# Altium footprint library PCB - LEADLESS - DFN - ANALOG DFN-8 3x2MM.PcbLib: 1 footprints
Each footprint in its own frame and in the unit in brackets; x right, y up, seen from the top. Pads: shape width x height; smd on the part's side, far side on the other; paste and mask are expansions set on the pad; w line width, h text height; cw(c..) or ccw(c..) is an arc to the next point about the centre after c.
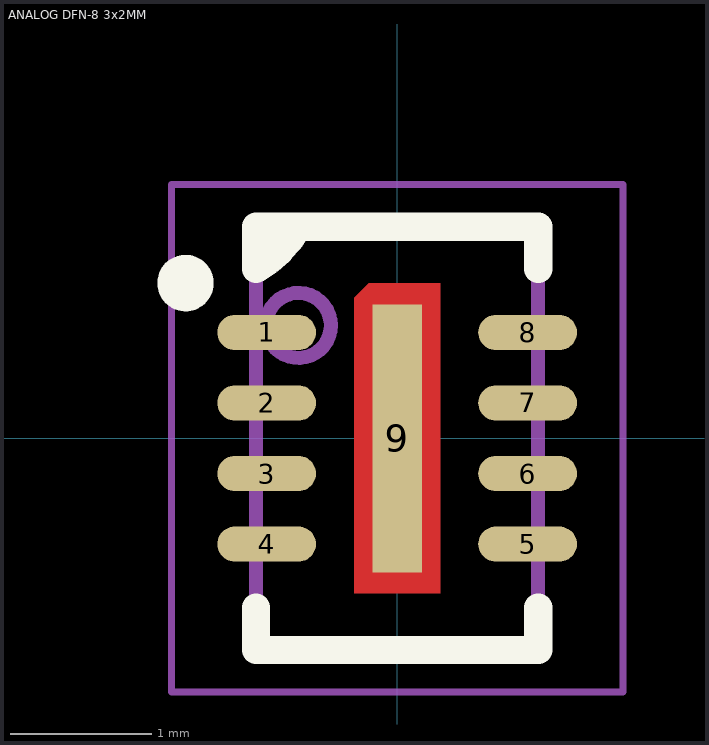
[diagram p0: the footprint, top view; thin cyan lines are the x and y axes]

## ANALOG DFN-8 3x2MM [mm] "8-WFDFN Exposed Pad Package, 0.5mm Pitch, 3.00x2.00 mm Body"
height 0.8
pads (9):
  oval 0.7x0.25 smd: 1(-0.925,0.75) 2(-0.925,0.25) 3(-0.925,-0.25) 4(-0.925,-0.75) 5(0.925,-0.75) 6(0.925,-0.25) 7(0.925,0.25) 8(0.925,0.75)
  rect 0.35x1.9 smd: 9(0,0)
Top Layer:
  region: -0.305,0.995 -0.2,1.1 0.305,1.1 0.305,-1.1 -0.305,-1.1
Top Overlay:
  circle w0.2: c-1.5,1.1 r0.1
  lines w0.2: -1,-1.2 -1,-1.5 1,-1.5 1,-1.2 ; -0.7,1.5 cw(c-1.402,1.902) -1,1.2 -1,1.5 1,1.5 1,1.2
Mechanical 13:
  circle w0.1: c-0.7,0.8 r0.23
  lines w0.1: -1,-1.5 -1,1.5 1,1.5 1,-1.5 -1,-1.5
Mechanical 15 (Mech15):
  lines w0.05: -1.6,-1.8 -1.6,1.8 1.6,1.8 1.6,-1.8 -1.6,-1.8
3D body "TI - DFN-8 v2.step": height 0.8, standoff 0, extent -1,-1.5 1,1.5